# Altium footprint library MMT_OtherComponents.PcbLib: 35 footprints (part 1 of 3)
Each footprint in its own frame and in the unit in brackets; x right, y up, seen from the top. Pads: shape width x height; smd on the part's side, far side on the other; paste and mask are expansions set on the pad; w line width, h text height; cw(c..) or ccw(c..) is an arc to the next point about the centre after c.
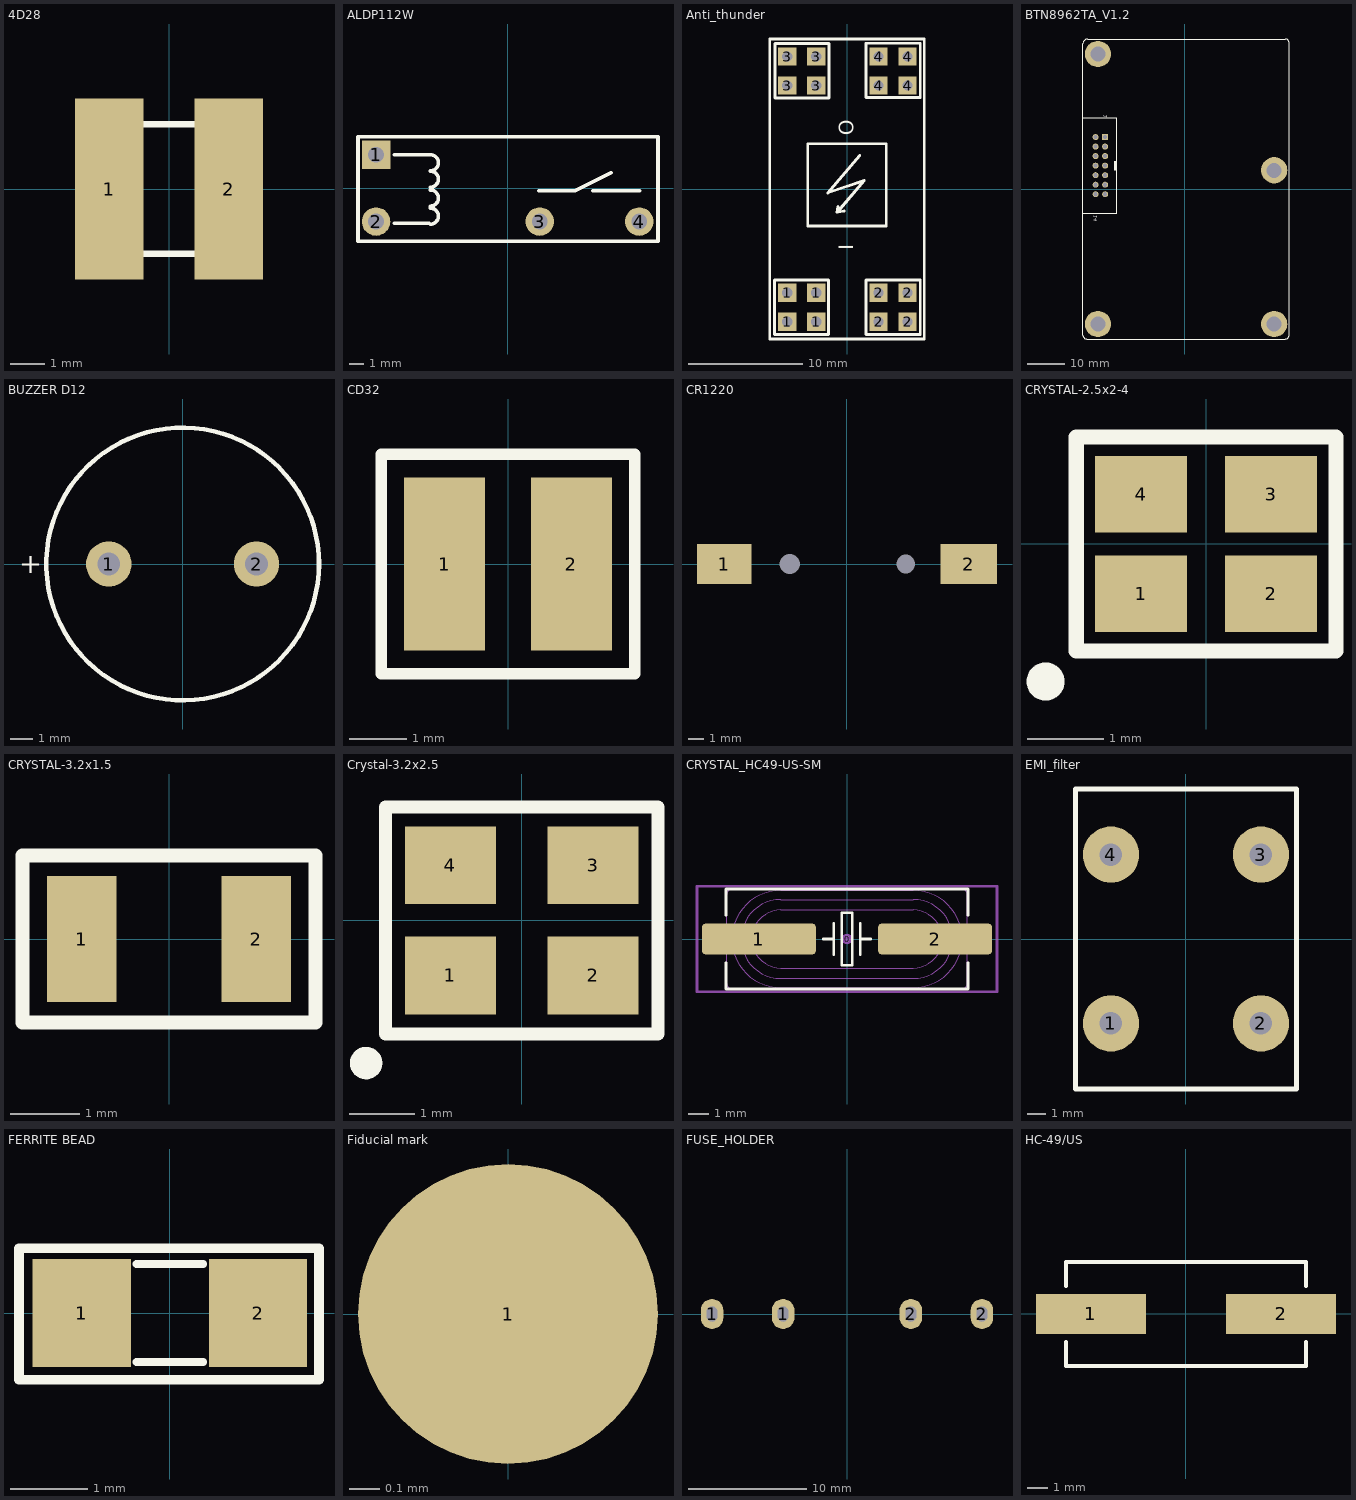
[diagram p0: the footprints below, top view; thin cyan lines are the x and y axes]

## 4D28 [mm]
height 3
pads (2):
  rect 2x5.3 smd: 1(-1.75,0) 2(1.75,0)
Top Overlay:
  lines w0.2: -2.2,-1.9 2.2,-1.9 2.2,1.9 -2.2,1.9 -2.2,-0.6 -2.2,-1.9
3D body "User Library-CDRH4D28.step": height 2.91, standoff 0, extent -2.45,-2.45 2.45,2.45

## ALDP112W [mm]
pads (4):
  rect 2x2 hole 1.1: 1(-9.25,2.35)
  round 2 hole 1.1: 2(-9.25,-2.35) 3(2.25,-2.35) 4(9.25,-2.35)
Top Overlay:
  lines w0.254: -7.98,-2.476 -5.948,-2.476 -5.5,-2.476 ; -7.98,2.35 -5.948,2.35 -5.44,2.35 cw(c-5.44,1.782) -5.44,1.214 ; -5.44,-2.536 ccw(c-5.44,-1.968) -5.44,-1.4 ; -5.44,-1.266 ccw(c-5.44,-0.698) -5.44,-0.13 ; -5.44,0.064 ccw(c-5.44,0.632) -5.44,1.2 ; 2.18,-0.19 4.72,-0.19 7.26,1.08 ; 5.99,-0.19 9.292,-0.19 ; -10.52,-3.746 10.562,-3.746 10.562,3.62 -10.52,3.62 -10.52,-3.746
3D body: height 15.3, standoff 0, extent -10.52,-3.746 10.562,3.62

## Anti_thunder [mm]
pads (16):
  rect 1.6x1.6 hole 0.9: 1(-5.271,-11.62) 1(-5.271,-9.08) 1(-2.73,-11.62) 1(-2.73,-9.08) 2(2.73,-11.62) 2(2.731,-9.08) 2(5.271,-11.62) 2(5.271,-9.08) 3(-5.271,9.08) 3(-5.27,11.62) 3(-2.73,9.08) 3(-2.73,11.62) 4(2.73,9.08) 4(2.73,11.62) 4(5.27,9.08) 4(5.271,11.62)
Top Overlay:
  lines w0.254: -0.82,-1.52 -0.894,-2.02 ; 1.081,2.955 -1.72,-0.32 1.48,0.755 -0.894,-2.02 ; -0.894,-2.02 -0.269,-1.92 -0.894,-2.02 ; -6.794,-13.12 6.73,-13.12 6.73,13.155 -6.645,13.155 -6.794,13.155 -6.794,-13.12 ; -6.395,-12.72 -1.646,-12.72 -1.646,-7.97 -6.395,-7.97 -6.395,-12.72 ; -6.345,8.005 -6.345,12.755 -1.596,12.755 -1.596,8.005 -6.345,8.005 ; -3.47,-3.22 -3.47,3.98 3.405,3.98 3.405,-3.22 -3.47,-3.22 ; 1.63,-12.72 1.63,-7.97 6.379,-7.97 6.379,-12.72 1.63,-12.72 ; 1.63,8.03 1.63,12.78 6.379,12.78 6.379,8.03 1.63,8.03
  text "I" at -0.762,-4.826 h1.27
  text "O" at -0.762,6.096 h1.27
3D body "pcb_anti_thunder.step": height 31, standoff -4.1, extent -8.064,-13.5 8.11,13.1

## BTN8962TA_V1.2 [mm] "14 pins, straight, gold plating"
height 9.1
pads (18):
  rect 1.6x1.6 hole 1.1: 1(-21.27,13.84)
  round 1.6 hole 1.1: 2(-23.81,13.84) 3(-21.27,11.3) 4(-23.81,11.3) 5(-21.27,8.76) 6(-23.81,8.76) 7(-21.27,6.22) 8(-23.81,6.22) 9(-21.27,3.68) 10(-23.81,3.68) 11(-21.27,1.14) 12(-23.81,1.14) 13(-21.27,-1.4) 14(-23.81,-1.4)
  round 7 hole 4: ""(-23.19,-36) ""(-23.19,36) ""(23.81,-36) ""(23.81,5)
Top Overlay:
  region: -18.9,7.49 -18.9,4.95 -18.115,4.95 -18.115,7.49
  lines w0.127: -27.215,-6.5 -18.115,-6.5 -18.115,18.94 -27.215,18.94 ; -27.19,-5.425 -27.189,20.015
  lines w0.254: 27.81,-39 cw(c26.81,-39) 26.81,-40 -26.19,-40 cw(c-26.19,-39) -27.19,-39 -27.19,38.73 cw(c-25.92,38.73) -25.92,40 26.81,40 cw(c26.81,39) 27.81,39 27.81,-39 ; 27.81,-39 27.81,-39
  text "14" at -23.34,-7.02 h1.02
  text "1" at -20.74,19.76 h1.02
3D body "User Library-DC14P.step": height 9.13, standoff -2.98, extent -27.215,-6.5 -18.115,18.94
3D body "DC_Motor_Driver_BTN8962TA_V1.2.step": height 22.56, standoff 0.46, extent -26.902,-40.65 28.121,40.6

## BUZZER D12 [mm]
height 9
pads (2):
  round 2 hole 1: 1(-3.25,0) 2(3.25,0)
Top Overlay:
  circle w0.2: c0,0 r6
  text "+" at -7.2,-0.4 h0.89
3D body "User Library-buzzer12.step": height 7.5, standoff -2, extent -5.993,-6 6.007,5.986

## CD32 [mm]
pads (2):
  rect 1.4x3 smd: 1(-1.1,0) 2(1.1,0)
Top Overlay:
  lines w0.2: -2.2,-1.9 2.2,-1.9 2.2,1.9 -2.2,1.9 -2.2,-0.6 -2.2,-1.9
3D body "User Library-CD32 inductor.step": height 2.1, standoff 0, extent -1.651,-1.5 1.651,1.5

## CR1220 [mm]
pads (4):
  rect 3.54x2.6 smd: 1(-7.9,0)
  rect 3.66x2.6 smd: 2(7.9,0)
  round 0 hole 1.3: 3(-3.67,0)
  round 0 hole 1.2: 4(3.83,0)
3D body "User Library-Battery Holder for CR1220 SMD.step": height 4.23, standoff -0.52, extent -9.525,-7.375 9.275,7.374

## CRYSTAL-2.5x2-4 [mm]
pads (4):
  rect 1.2x1 smd: 1(-0.85,-0.65) 2(0.85,-0.65) 3(0.85,0.65) 4(-0.85,0.65)
Top Overlay:
  circle w0.25: c-2.1,-1.8 r0.125
  lines w0.2: -1.7,-1.4 1.7,-1.4 1.7,1.4 -1.7,1.4 -1.7,-1.4
3D body "User Library-NX2520SA.STEP": height 0.67, standoff 0.02, extent -1.251,-1.001 1.251,1.001

## CRYSTAL-3.2x1.5 [mm] "3.2mm * 1.5mm"
height 0.005
pads (2):
  rect 1x1.8 smd: 1(-1.25,0) 2(1.25,0)
Top Overlay:
  lines w0.2: -2.1,-1.2 -2.1,1.2 2.1,1.2 2.1,-1.2 -2.1,-1.2
3D body "User Library-KX-327NHT-1.STEP": height 0.71, standoff 0, extent -1.6,-0.75 1.6,0.75

## Crystal-3.2x2.5 [mm] "DSX321G"
pads (4):
  rect 1.4x1.2 smd: 1(-1.1,-0.85) 2(1.1,-0.85) 3(1.1,0.85) 4(-1.1,0.85)
Top Overlay:
  circle w0.25: c-2.4,-2.2 r0.125
  lines w0.2: -2.1,-1.75 2.1,-1.75 2.1,1.75 -2.1,1.75 -2.1,-1.75
3D body "User Library-XTAL-3_2x2_5.STEP": height 0.93, standoff 0.01, extent -1.625,-1.225 1.575,1.275

## CRYSTAL_HC49-US-SM [mm] "SMD Crystal HC49/US-SM package"
height 4.3
pads (3):
  round 0.508 on Mech15: 0(0,0)
  rrect25% 5.5x1.5 smd: 1(-4.25,0) 2(4.25,0)
Top Overlay:
  lines w0.127: -5.842,-1.143 -5.842,-2.413 5.842,-2.413 5.842,-1.143 ; -5.842,1.143 -5.842,2.413 5.842,2.413 5.842,1.143 ; -1.143,0 -0.635,0 ; -0.635,-0.762 -0.635,0.762 ; 0.635,-0.762 0.635,0.762 ; 0.635,0 1.143,0 ; -0.254,-1.27 0.254,-1.27 0.254,1.27 -0.254,1.27 -0.254,-1.27
Mechanical 13:
  lines w0.05: -5.8,-0.45 -6.4,-0.45 -6.4,0.45 -5.8,0.45 ; 5.8,-0.45 6.4,-0.45 6.4,0.45 5.8,0.45 ; -5.8,-2.165 ccw(c-5.55,-2.165) -5.55,-2.415 5.55,-2.415 ccw(c5.55,-2.165) 5.8,-2.165 5.8,2.165 ccw(c5.55,2.165) 5.55,2.415 -5.55,2.415 ccw(c-5.55,2.165) -5.8,2.165 -5.8,-2.165 ; -3.2,-2.35 cw(c-3.2,0) -3.2,2.35 3.2,2.35 cw(c3.2,0) 3.2,-2.35 -3.2,-2.35 ; -3.2,-1.9 cw(c-3.2,0) -3.2,1.9 3.2,1.9 cw(c3.2,0) 3.2,-1.9 -3.2,-1.9 ; -3.2,-1.4 cw(c-3.2,0) -3.2,1.4 3.2,1.4 cw(c3.2,0) 3.2,-1.4 -3.2,-1.4
Mechanical 15:
  lines w0.127: -7.239,-2.54 -7.239,2.54 7.239,2.54 7.239,-2.54 -7.239,-2.54
3D body "Crystal HC49_US-SM.STEP": height 4.29, standoff -0.01, extent -6.4,-2.415 6.4,2.415

## EMI_filter [mm]
pads (4):
  round 3 hole 1.2: 1(-4,-4.5) 2(4,-4.5) 3(4,4.5) 4(-4,4.5)
Top Overlay:
  lines w0.254: -5.9,-8 -5.9,8 5.9,8 5.9,-8 -5.9,-8
3D body "SW3dPS-INDUCTOR, COMMON MODE, 22MH PER SIDE, WAH HING CG00008A.STEP": height 15.45, standoff -3, extent -5.425,-7.782 5.425,7.781

## FERRITE BEAD [mil]
pads (2):
  rect 50x55 smd: 1(-45,0) 2(45,0)
Top Overlay:
  lines w4: -17,-25 17,-25 ; -17,25 17,25
  lines w5: -77,-34 -77,33 76,33 76,-34 -77,-34
3D body "User Library-CR2012-0805.STEP": height 24.23, standoff 0.6, extent -39.36,-24.6 39.38,24.61

## Fiducial mark [mm]
pads (1):
  round 1 all layers, no hole mask+0.5: 1(0,0)

## FUSE_HOLDER [mm]
height 10
pads (4):
  oval 1.905x2.54 hole 0.889 slot 1.27 at 90 deg: 1(-11.4,0) 1(-5.4,0) 2(5.4,0) 2(11.4,0)
3D body "User Library-Clips FC-201 with fuse 5x20.STEP": height 8.63, standoff -3.56, extent -11.7,-3.074 11.678,3.274

## HC-49/US [mm]
pads (2):
  rect 5.5x2 smd: 1(-4.75,0) 2(4.75,0)
Top Overlay:
  lines w0.2: -6,-1.4 -6,-2.6 6,-2.6 6,-1.4 ; -6,1.4 -6,2.6 6,2.6 6,1.4
3D body "User Library-Crystal HC49_US-SM.step": height 4.3, standoff 0, extent -6.4,-2.415 6.4,2.415